# Altium schematic symbol library SN74HC4066.SchLib: 1 symbol
Pins are listed as number, name and electrical type; pins without a type are passive.

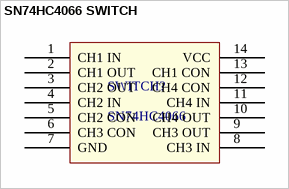
[diagram p0: symbol SN74HC4066 SWITCH]

## SN74HC4066 SWITCH
designator SWITCH?, comment SN74HC4066
SN74HC4066 SWITCH
footprint SN74HC4066_DIP (SN74HC4066_DIP Switch)
pins: 1 CH1 IN "CHANNEL 1 INPUT", 2 CH1 OUT "CHANNEL 1 OUTPUT", 3 CH2 OUT "CHANNEL 3 OUTPUT", 4 CH2 IN "CHANNEL 2 INPUT", 5 CH2 CON "CHANNEL 2 CONTROL", 6 CH3 CON "CHANNEL 3 CONTROL", 7 GND "GROUND TERMINAL", 8 CH3 IN "CHANNEL 3 INPUT", 9 CH3 OUT "CHANNEL 3 OUTPUT", 10 CH4 OUT "CHANNEL 4 OUTPUT", 11 CH4 IN "CHANNEL 4 INPUT", 12 CH4 CON "CHANNEL 4 CONTROL", 13 CH1 CON "CHANNEL 1 CONTROL", 14 VCC "POWER VOLTAGE TERMINAL"